# Altium schematic symbol library pporyzala-TI_Lighting.SchLib: 745 symbols (part 3 of 48)
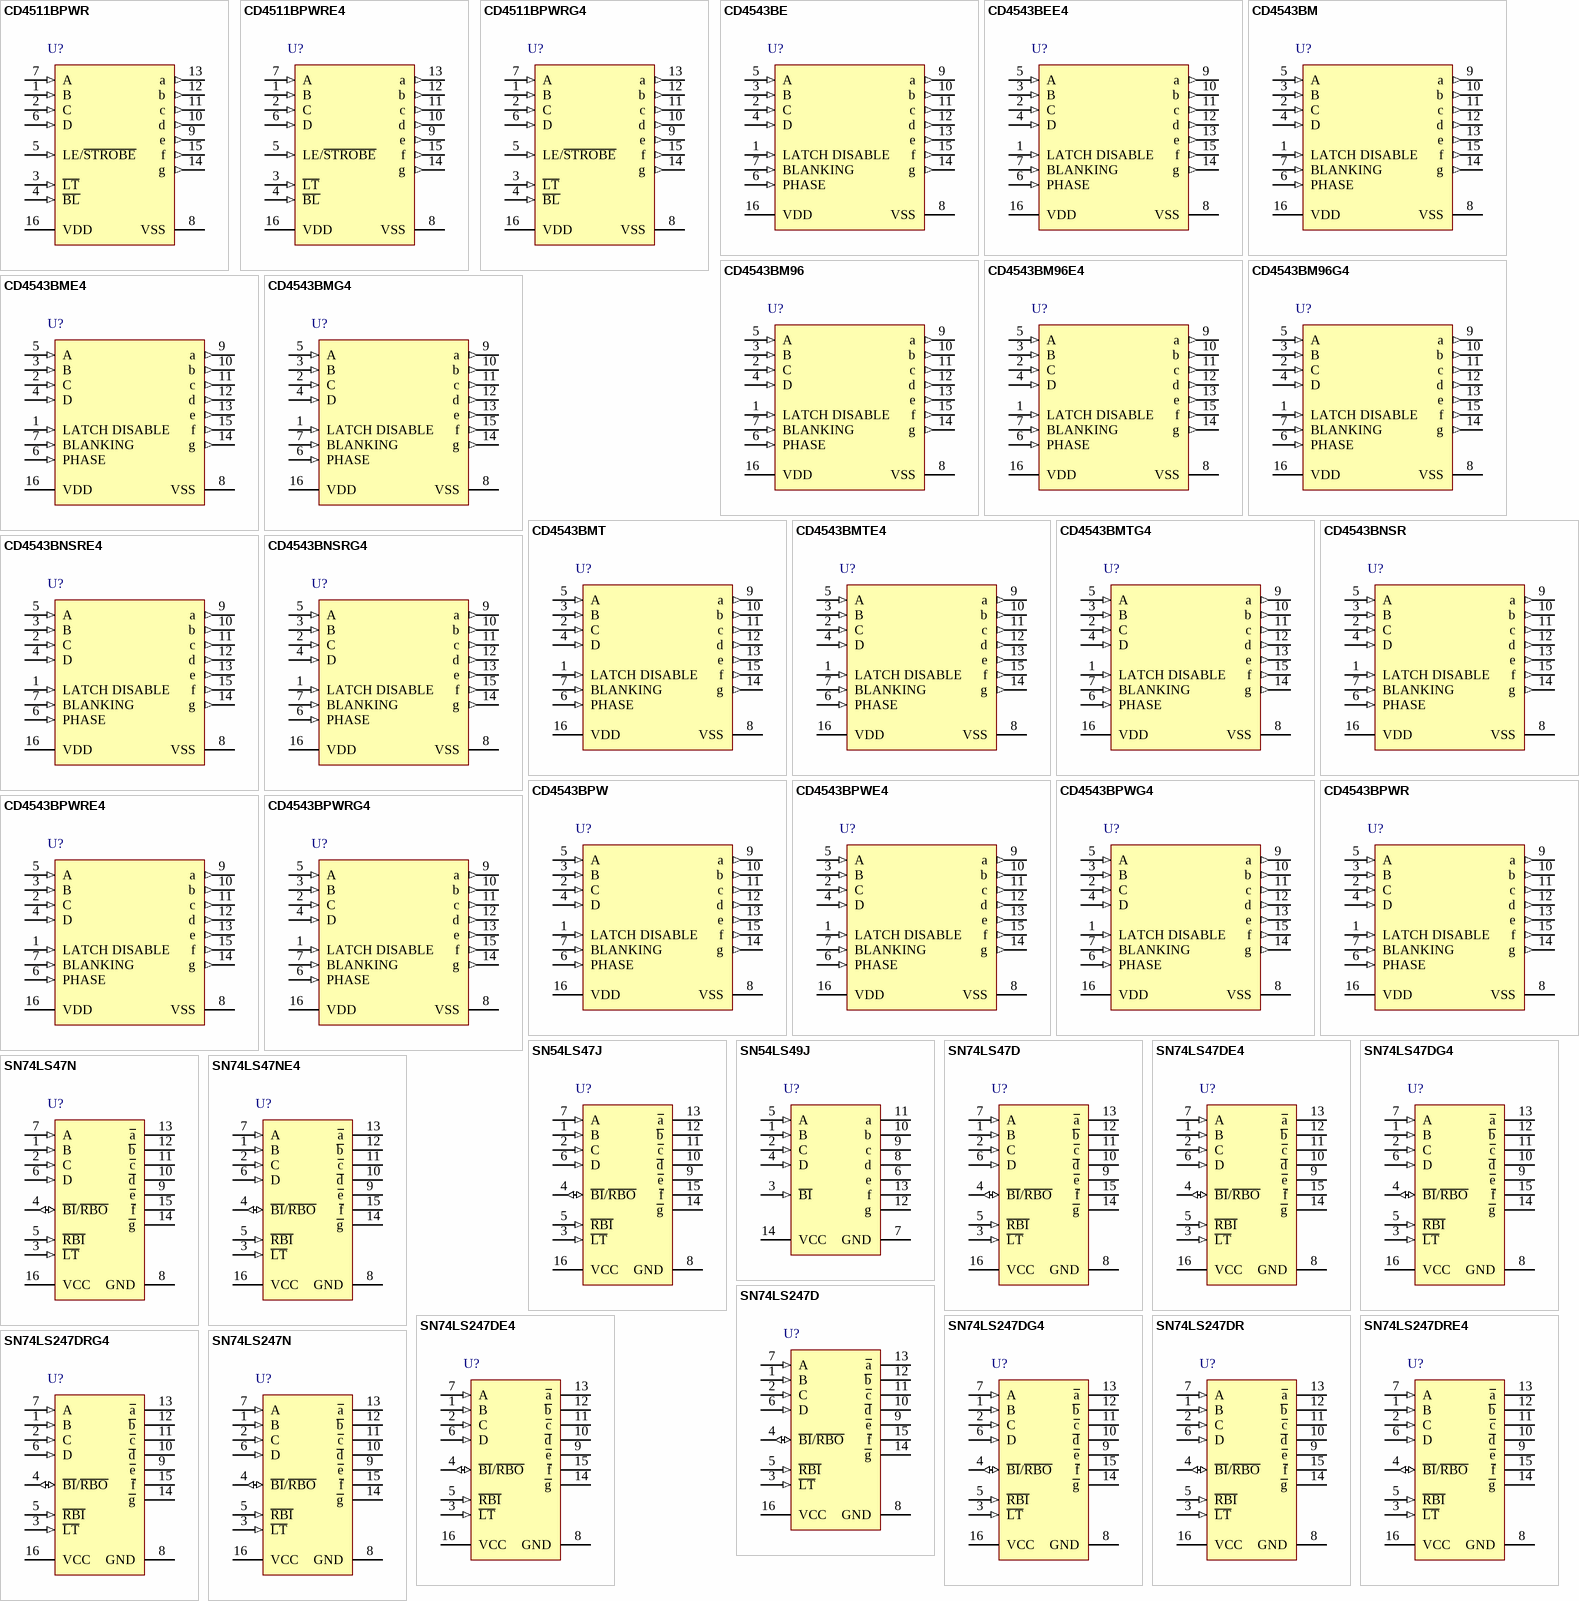
[diagram p33: symbols CD4511BPWR to SN74LS247N]

## CD4511BPWR
designator U?
CMOS BCD-to-7-Segment LED Latch / Decoder / Driver, 3 to 18 V, -55 to 125 degC, 16-pin SOP (PW16), Green (RoHS & no Sb/Br); Manufacturer: Texas Instruments; PartNumber: CD4511BPWR; Rating: Military; SubFamily: Discrete Segment LED Driver; Vin(Max)(V): 18; Vin(Min)(V): 3; DatasheetVersion: SCHS072B; PackageVersion: 4040064-4/G; PackageReference: PW16; PackageDescription: 16-Pin Plastic Small Outline, Body 4.40 x 5.00 mm, Pitch 0.65 mm; Supplier 1: Digi-Key; Supplier Part Number 1: 296-3529-2-ND; Supplier 2: Digi-Key; Supplier Part Number 2: 296-3529-1-ND; Supplier 3: Digi-Key; Supplier Part Number 3: 296-3529-6-ND; Supplier 4: Newark; Supplier Part Number 4: 74C8156; Supplier 5: Mouser; Supplier Part Number 5: 595-CD4511BPWR; Eco-Plan: Green (RoHS & no Sb/Br); Mounting Technology: Surface Mount; Code_JEDEC: MO-153; ComponentLink1Description: Manufacturer URL; ComponentLink1URL: http://www.ti.com/; ComponentLink2Description: Datasheet; ComponentLink2URL: http://www.ti.com/general/docs/lit/getliterature.tsp?genericPartNumber=CD4511B&fileType=pdf; ComponentLink3Description: Package Specification; ComponentLink3URL: http://www.ti.com/lit/ml/mpds361/mpds361.pdf
footprint TI-PW16_N (SOP, 16-Leads, Body 5x4.4mm, Pitch 0.65mm, IPC Medium Density)
footprint TI-PW16_L (SOP, 16-Leads, Body 5x4.4mm, Pitch 0.65mm, IPC High Density)
footprint TI-PW16_M (SOP, 16-Leads, Body 5x4.4mm, Pitch 0.65mm, IPC Low Density)
pins: 1 B (in), 2 C (in), 3 ~{LT} (in), 4 ~{BL} (in), 5 LE/~{STROBE} (in), 6 D (in), 7 A (in), 8 VSS (power), 9 e (out), 10 d (out), 11 c (out), 12 b (out), 13 a (out), 14 g (out), 15 f (out), 16 VDD (power)

## CD4511BPWRE4
designator U?
CMOS BCD-to-7-Segment LED Latch / Decoder / Driver, 3 to 18 V, -55 to 125 degC, 16-pin SOP (PW16), Green (RoHS & no Sb/Br); Manufacturer: Texas Instruments; PartNumber: CD4511BPWRE4; Rating: Military; SubFamily: Discrete Segment LED Driver; Vin(Max)(V): 18; Vin(Min)(V): 3; DatasheetVersion: SCHS072B; PackageVersion: 4040064-4/G; PackageReference: PW16; PackageDescription: 16-Pin Plastic Small Outline, Body 4.40 x 5.00 mm, Pitch 0.65 mm; Supplier 1: Digi-Key; Supplier Part Number 1: CD4511BPWRE4-ND; Supplier 2: Newark; Supplier Part Number 2: 33K4975; Supplier 3: Mouser; Supplier Part Number 3: 595-CD4511BPWRE4; Eco-Plan: Green (RoHS & no Sb/Br); Mounting Technology: Surface Mount; Code_JEDEC: MO-153; ComponentLink1Description: Manufacturer URL; ComponentLink1URL: http://www.ti.com/; ComponentLink2Description: Datasheet; ComponentLink2URL: http://www.ti.com/general/docs/lit/getliterature.tsp?genericPartNumber=CD4511B&fileType=pdf; ComponentLink3Description: Package Specification; ComponentLink3URL: http://www.ti.com/lit/ml/mpds361/mpds361.pdf
footprint TI-PW16_N (SOP, 16-Leads, Body 5x4.4mm, Pitch 0.65mm, IPC Medium Density)
footprint TI-PW16_L (SOP, 16-Leads, Body 5x4.4mm, Pitch 0.65mm, IPC High Density)
footprint TI-PW16_M (SOP, 16-Leads, Body 5x4.4mm, Pitch 0.65mm, IPC Low Density)
pins: 1 B (in), 2 C (in), 3 ~{LT} (in), 4 ~{BL} (in), 5 LE/~{STROBE} (in), 6 D (in), 7 A (in), 8 VSS (power), 9 e (out), 10 d (out), 11 c (out), 12 b (out), 13 a (out), 14 g (out), 15 f (out), 16 VDD (power)

## CD4511BPWRG4
designator U?
CMOS BCD-to-7-Segment LED Latch / Decoder / Driver, 3 to 18 V, -55 to 125 degC, 16-pin SOP (PW16), Green (RoHS & no Sb/Br); Manufacturer: Texas Instruments; PartNumber: CD4511BPWRG4; Rating: Military; SubFamily: Discrete Segment LED Driver; Vin(Max)(V): 18; Vin(Min)(V): 3; DatasheetVersion: SCHS072B; PackageVersion: 4040064-4/G; PackageReference: PW16; PackageDescription: 16-Pin Plastic Small Outline, Body 4.40 x 5.00 mm, Pitch 0.65 mm; Supplier 1: Digi-Key; Supplier Part Number 1: CD4511BPWRG4-ND; Supplier 2: Newark; Supplier Part Number 2: 46M6241; Supplier 3: Mouser; Supplier Part Number 3: 595-CD4511BPWRG4; Eco-Plan: Green (RoHS & no Sb/Br); Mounting Technology: Surface Mount; Code_JEDEC: MO-153; ComponentLink1Description: Manufacturer URL; ComponentLink1URL: http://www.ti.com/; ComponentLink2Description: Datasheet; ComponentLink2URL: http://www.ti.com/general/docs/lit/getliterature.tsp?genericPartNumber=CD4511B&fileType=pdf; ComponentLink3Description: Package Specification; ComponentLink3URL: http://www.ti.com/lit/ml/mpds361/mpds361.pdf
footprint TI-PW16_N (SOP, 16-Leads, Body 5x4.4mm, Pitch 0.65mm, IPC Medium Density)
footprint TI-PW16_L (SOP, 16-Leads, Body 5x4.4mm, Pitch 0.65mm, IPC High Density)
footprint TI-PW16_M (SOP, 16-Leads, Body 5x4.4mm, Pitch 0.65mm, IPC Low Density)
pins: 1 B (in), 2 C (in), 3 ~{LT} (in), 4 ~{BL} (in), 5 LE/~{STROBE} (in), 6 D (in), 7 A (in), 8 VSS (power), 9 e (out), 10 d (out), 11 c (out), 12 b (out), 13 a (out), 14 g (out), 15 f (out), 16 VDD (power)

## CD4543BE
designator U?
CMOS BCD-to-7-Segment Latch / Decoder / Driver for Liquid-Crystal Displays, 3 V, -55 to 125 degC, 16-pin DIP (N16), Pb-Free (RoHS); Manufacturer: Texas Instruments; PartNumber: CD4543BE; Rating: Catalog; SubFamily: Discrete Segment LED Driver; Vin(Min)(V): 3; DatasheetVersion: SCHS086D; PackageVersion: 4040049/E; PackageReference: N16; PackageDescription: 16-Pin Plastic In-Line, Body 19.305 x 6.35 mm, Pitch 2.54 mm; Supplier 1: Digi-Key; Supplier Part Number 1: 296-2079-5-ND; Supplier 2: Farnell; Supplier Part Number 2: 1287418; Supplier 3: Newark; Supplier Part Number 3: 67K0090; Supplier 4: Mouser; Supplier Part Number 4: 595-CD4543BE; Eco-Plan: Pb-Free (RoHS); Mounting Technology: Through Hole; Code_JEDEC: MS-001; ComponentLink1Description: Manufacturer URL; ComponentLink1URL: http://www.ti.com/; ComponentLink2Description: Datasheet; ComponentLink2URL: http://www.ti.com/general/docs/lit/getliterature.tsp?genericPartNumber=CD4543B&fileType=pdf; ComponentLink3Description: Package Specification; ComponentLink3URL: http://www.ti.com/litv/pdf/mpdi002c
footprint TI-N16 (DIP, 16-Leads, Body 19.305x6.35 mm, Pitch 2.54 mm)
pins: 1 LATCH DISABLE (in), 2 C (in), 3 B (in), 4 D (in), 5 A (in), 6 PHASE (in), 7 BLANKING (in), 8 VSS (power), 9 a (out), 10 b (out), 11 c (out), 12 d (out), 13 e (out), 14 g (out), 15 f (out), 16 VDD (power)

## CD4543BEE4
designator U?
CMOS BCD-to-7-Segment Latch / Decoder / Driver for Liquid-Crystal Displays, 3 V, -55 to 125 degC, 16-pin DIP (N16), Pb-Free (RoHS); Manufacturer: Texas Instruments; PartNumber: CD4543BEE4; Rating: Catalog; SubFamily: Discrete Segment LED Driver; Vin(Min)(V): 3; DatasheetVersion: SCHS086D; PackageVersion: 4040049/E; PackageReference: N16; PackageDescription: 16-Pin Plastic In-Line, Body 19.305 x 6.35 mm, Pitch 2.54 mm; Supplier 1: Digi-Key; Supplier Part Number 1: CD4543BEE4-ND; Supplier 2: Newark; Supplier Part Number 2: 63K5043; Supplier 3: Mouser; Supplier Part Number 3: 595-CD4543BEE4; Eco-Plan: Pb-Free (RoHS); Mounting Technology: Through Hole; Code_JEDEC: MS-001; ComponentLink1Description: Manufacturer URL; ComponentLink1URL: http://www.ti.com/; ComponentLink2Description: Datasheet; ComponentLink2URL: http://www.ti.com/general/docs/lit/getliterature.tsp?genericPartNumber=CD4543B&fileType=pdf; ComponentLink3Description: Package Specification; ComponentLink3URL: http://www.ti.com/litv/pdf/mpdi002c
footprint TI-N16 (DIP, 16-Leads, Body 19.305x6.35 mm, Pitch 2.54 mm)
pins: 1 LATCH DISABLE (in), 2 C (in), 3 B (in), 4 D (in), 5 A (in), 6 PHASE (in), 7 BLANKING (in), 8 VSS (power), 9 a (out), 10 b (out), 11 c (out), 12 d (out), 13 e (out), 14 g (out), 15 f (out), 16 VDD (power)

## CD4543BM
designator U?
CMOS BCD-to-7-Segment Latch / Decoder / Driver for Liquid-Crystal Displays, 3 V, -55 to 125 degC, 16-pin SOIC (D16), Green (RoHS & no Sb/Br); Manufacturer: Texas Instruments; PartNumber: CD4543BM; Rating: Catalog; SubFamily: Discrete Segment LED Driver; Vin(Min)(V): 3; DatasheetVersion: SCHS086D; PackageVersion: 4040047-6/M; PackageReference: D16; PackageDescription: 16-Pin Plastic Small Outline, Body 9.90 x 3.90 mm, Pitch 1.27 mm; Supplier 1: Digi-Key; Supplier Part Number 1: 296-32934-5-ND; Supplier 2: Farnell; Supplier Part Number 2: 1753457; Supplier 3: Newark; Supplier Part Number 3: 61H5012; Supplier 4: Mouser; Supplier Part Number 4: 595-CD4543BM; Eco-Plan: Green (RoHS & no Sb/Br); Mounting Technology: Surface Mount; Code_JEDEC: MS-012; ComponentLink1Description: Manufacturer URL; ComponentLink1URL: http://www.ti.com/; ComponentLink2Description: Datasheet; ComponentLink2URL: http://www.ti.com/general/docs/lit/getliterature.tsp?genericPartNumber=CD4543B&fileType=pdf; ComponentLink3Description: Package Specification; ComponentLink3URL: http://www.ti.com/litv/pdf/mpds178g
footprint TI-D16_N (SOIC, 16-Leads, Body 9.9x3.9mm, Pitch 1.27mm, IPC Medium Density)
footprint TI-D16_L (SOIC, 16-Leads, Body 9.9x3.9mm, Pitch 1.27mm, IPC High Density)
footprint TI-D16_M (SOIC, 16-Leads, Body 9.9x3.9mm, Pitch 1.27mm, IPC Low Density)
pins: 1 LATCH DISABLE (in), 2 C (in), 3 B (in), 4 D (in), 5 A (in), 6 PHASE (in), 7 BLANKING (in), 8 VSS (power), 9 a (out), 10 b (out), 11 c (out), 12 d (out), 13 e (out), 14 g (out), 15 f (out), 16 VDD (power)

## CD4543BM96
designator U?
CMOS BCD-to-7-Segment Latch / Decoder / Driver for Liquid-Crystal Displays, 3 V, -55 to 125 degC, 16-pin SOIC (D16), Green (RoHS & no Sb/Br); Manufacturer: Texas Instruments; PartNumber: CD4543BM96; Rating: Catalog; SubFamily: Discrete Segment LED Driver; Vin(Min)(V): 3; DatasheetVersion: SCHS086D; PackageVersion: 4040047-6/M; PackageReference: D16; PackageDescription: 16-Pin Plastic Small Outline, Body 9.90 x 3.90 mm, Pitch 1.27 mm; Supplier 1: Digi-Key; Supplier Part Number 1: 296-31539-2-ND; Supplier 2: Digi-Key; Supplier Part Number 2: 296-31539-1-ND; Supplier 3: Digi-Key; Supplier Part Number 3: 296-31539-6-ND; Supplier 4: Newark; Supplier Part Number 4: 61H5013; Supplier 5: Mouser; Supplier Part Number 5: 595-CD4543BM96; Eco-Plan: Green (RoHS & no Sb/Br); Mounting Technology: Surface Mount; Code_JEDEC: MS-012; ComponentLink1Description: Manufacturer URL; ComponentLink1URL: http://www.ti.com/; ComponentLink2Description: Datasheet; ComponentLink2URL: http://www.ti.com/general/docs/lit/getliterature.tsp?genericPartNumber=CD4543B&fileType=pdf; ComponentLink3Description: Package Specification; ComponentLink3URL: http://www.ti.com/litv/pdf/mpds178g
footprint TI-D16_N (SOIC, 16-Leads, Body 9.9x3.9mm, Pitch 1.27mm, IPC Medium Density)
footprint TI-D16_L (SOIC, 16-Leads, Body 9.9x3.9mm, Pitch 1.27mm, IPC High Density)
footprint TI-D16_M (SOIC, 16-Leads, Body 9.9x3.9mm, Pitch 1.27mm, IPC Low Density)
pins: 1 LATCH DISABLE (in), 2 C (in), 3 B (in), 4 D (in), 5 A (in), 6 PHASE (in), 7 BLANKING (in), 8 VSS (power), 9 a (out), 10 b (out), 11 c (out), 12 d (out), 13 e (out), 14 g (out), 15 f (out), 16 VDD (power)

## CD4543BM96E4
designator U?
CMOS BCD-to-7-Segment Latch / Decoder / Driver for Liquid-Crystal Displays, 3 V, -55 to 125 degC, 16-pin SOIC (D16), Green (RoHS & no Sb/Br); Manufacturer: Texas Instruments; PartNumber: CD4543BM96E4; Rating: Catalog; SubFamily: Discrete Segment LED Driver; Vin(Min)(V): 3; DatasheetVersion: SCHS086D; PackageVersion: 4040047-6/M; PackageReference: D16; PackageDescription: 16-Pin Plastic Small Outline, Body 9.90 x 3.90 mm, Pitch 1.27 mm; Supplier 1: Digi-Key; Supplier Part Number 1: CD4543BM96E4-ND; Supplier 2: Newark; Supplier Part Number 2: 36K8879; Supplier 3: Mouser; Supplier Part Number 3: 595-CD4543BM96E4; Eco-Plan: Green (RoHS & no Sb/Br); Mounting Technology: Surface Mount; Code_JEDEC: MS-012; ComponentLink1Description: Manufacturer URL; ComponentLink1URL: http://www.ti.com/; ComponentLink2Description: Datasheet; ComponentLink2URL: http://www.ti.com/general/docs/lit/getliterature.tsp?genericPartNumber=CD4543B&fileType=pdf; ComponentLink3Description: Package Specification; ComponentLink3URL: http://www.ti.com/litv/pdf/mpds178g
footprint TI-D16_N (SOIC, 16-Leads, Body 9.9x3.9mm, Pitch 1.27mm, IPC Medium Density)
footprint TI-D16_L (SOIC, 16-Leads, Body 9.9x3.9mm, Pitch 1.27mm, IPC High Density)
footprint TI-D16_M (SOIC, 16-Leads, Body 9.9x3.9mm, Pitch 1.27mm, IPC Low Density)
pins: 1 LATCH DISABLE (in), 2 C (in), 3 B (in), 4 D (in), 5 A (in), 6 PHASE (in), 7 BLANKING (in), 8 VSS (power), 9 a (out), 10 b (out), 11 c (out), 12 d (out), 13 e (out), 14 g (out), 15 f (out), 16 VDD (power)

## CD4543BM96G4
designator U?
CMOS BCD-to-7-Segment Latch / Decoder / Driver for Liquid-Crystal Displays, 3 V, -55 to 125 degC, 16-pin SOIC (D16), Green (RoHS & no Sb/Br); Manufacturer: Texas Instruments; PartNumber: CD4543BM96G4; Rating: Catalog; SubFamily: Discrete Segment LED Driver; Vin(Min)(V): 3; DatasheetVersion: SCHS086D; PackageVersion: 4040047-6/M; PackageReference: D16; PackageDescription: 16-Pin Plastic Small Outline, Body 9.90 x 3.90 mm, Pitch 1.27 mm; Supplier 1: Digi-Key; Supplier Part Number 1: CD4543BM96G4-ND; Supplier 2: Newark; Supplier Part Number 2: 41M2562; Supplier 3: Mouser; Supplier Part Number 3: 595-CD4543BM96G4; Eco-Plan: Green (RoHS & no Sb/Br); Mounting Technology: Surface Mount; Code_JEDEC: MS-012; ComponentLink1Description: Manufacturer URL; ComponentLink1URL: http://www.ti.com/; ComponentLink2Description: Datasheet; ComponentLink2URL: http://www.ti.com/general/docs/lit/getliterature.tsp?genericPartNumber=CD4543B&fileType=pdf; ComponentLink3Description: Package Specification; ComponentLink3URL: http://www.ti.com/litv/pdf/mpds178g
footprint TI-D16_N (SOIC, 16-Leads, Body 9.9x3.9mm, Pitch 1.27mm, IPC Medium Density)
footprint TI-D16_L (SOIC, 16-Leads, Body 9.9x3.9mm, Pitch 1.27mm, IPC High Density)
footprint TI-D16_M (SOIC, 16-Leads, Body 9.9x3.9mm, Pitch 1.27mm, IPC Low Density)
pins: 1 LATCH DISABLE (in), 2 C (in), 3 B (in), 4 D (in), 5 A (in), 6 PHASE (in), 7 BLANKING (in), 8 VSS (power), 9 a (out), 10 b (out), 11 c (out), 12 d (out), 13 e (out), 14 g (out), 15 f (out), 16 VDD (power)

## CD4543BME4
designator U?
CMOS BCD-to-7-Segment Latch / Decoder / Driver for Liquid-Crystal Displays, 3 V, -55 to 125 degC, 16-pin SOIC (D16), Green (RoHS & no Sb/Br); Manufacturer: Texas Instruments; PartNumber: CD4543BME4; Rating: Catalog; SubFamily: Discrete Segment LED Driver; Vin(Min)(V): 3; DatasheetVersion: SCHS086D; PackageVersion: 4040047-6/M; PackageReference: D16; PackageDescription: 16-Pin Plastic Small Outline, Body 9.90 x 3.90 mm, Pitch 1.27 mm; Supplier 1: Digi-Key; Supplier Part Number 1: CD4543BME4-ND; Supplier 2: Newark; Supplier Part Number 2: 36K8877; Supplier 3: Mouser; Supplier Part Number 3: 595-CD4543BME4; Eco-Plan: Green (RoHS & no Sb/Br); Mounting Technology: Surface Mount; Code_JEDEC: MS-012; ComponentLink1Description: Manufacturer URL; ComponentLink1URL: http://www.ti.com/; ComponentLink2Description: Datasheet; ComponentLink2URL: http://www.ti.com/general/docs/lit/getliterature.tsp?genericPartNumber=CD4543B&fileType=pdf; ComponentLink3Description: Package Specification; ComponentLink3URL: http://www.ti.com/litv/pdf/mpds178g
footprint TI-D16_N (SOIC, 16-Leads, Body 9.9x3.9mm, Pitch 1.27mm, IPC Medium Density)
footprint TI-D16_L (SOIC, 16-Leads, Body 9.9x3.9mm, Pitch 1.27mm, IPC High Density)
footprint TI-D16_M (SOIC, 16-Leads, Body 9.9x3.9mm, Pitch 1.27mm, IPC Low Density)
pins: 1 LATCH DISABLE (in), 2 C (in), 3 B (in), 4 D (in), 5 A (in), 6 PHASE (in), 7 BLANKING (in), 8 VSS (power), 9 a (out), 10 b (out), 11 c (out), 12 d (out), 13 e (out), 14 g (out), 15 f (out), 16 VDD (power)

## CD4543BMG4
designator U?
CMOS BCD-to-7-Segment Latch / Decoder / Driver for Liquid-Crystal Displays, 3 V, -55 to 125 degC, 16-pin SOIC (D16), Green (RoHS & no Sb/Br); Manufacturer: Texas Instruments; PartNumber: CD4543BMG4; Rating: Catalog; SubFamily: Discrete Segment LED Driver; Vin(Min)(V): 3; DatasheetVersion: SCHS086D; PackageVersion: 4040047-6/M; PackageReference: D16; PackageDescription: 16-Pin Plastic Small Outline, Body 9.90 x 3.90 mm, Pitch 1.27 mm; Supplier 1: Digi-Key; Supplier Part Number 1: CD4543BMG4-ND; Supplier 2: Newark; Supplier Part Number 2: 41M2560; Supplier 3: Mouser; Supplier Part Number 3: 595-CD4543BMG4; Eco-Plan: Green (RoHS & no Sb/Br); Mounting Technology: Surface Mount; Code_JEDEC: MS-012; ComponentLink1Description: Manufacturer URL; ComponentLink1URL: http://www.ti.com/; ComponentLink2Description: Datasheet; ComponentLink2URL: http://www.ti.com/general/docs/lit/getliterature.tsp?genericPartNumber=CD4543B&fileType=pdf; ComponentLink3Description: Package Specification; ComponentLink3URL: http://www.ti.com/litv/pdf/mpds178g
footprint TI-D16_N (SOIC, 16-Leads, Body 9.9x3.9mm, Pitch 1.27mm, IPC Medium Density)
footprint TI-D16_L (SOIC, 16-Leads, Body 9.9x3.9mm, Pitch 1.27mm, IPC High Density)
footprint TI-D16_M (SOIC, 16-Leads, Body 9.9x3.9mm, Pitch 1.27mm, IPC Low Density)
pins: 1 LATCH DISABLE (in), 2 C (in), 3 B (in), 4 D (in), 5 A (in), 6 PHASE (in), 7 BLANKING (in), 8 VSS (power), 9 a (out), 10 b (out), 11 c (out), 12 d (out), 13 e (out), 14 g (out), 15 f (out), 16 VDD (power)

## CD4543BMT
designator U?
CMOS BCD-to-7-Segment Latch / Decoder / Driver for Liquid-Crystal Displays, 3 V, -55 to 125 degC, 16-pin SOIC (D16), Green (RoHS & no Sb/Br); Manufacturer: Texas Instruments; PartNumber: CD4543BMT; Rating: Catalog; SubFamily: Discrete Segment LED Driver; Vin(Min)(V): 3; DatasheetVersion: SCHS086D; PackageVersion: 4040047-6/M; PackageReference: D16; PackageDescription: 16-Pin Plastic Small Outline, Body 9.90 x 3.90 mm, Pitch 1.27 mm; Supplier 1: Digi-Key; Supplier Part Number 1: 296-32051-2-ND; Supplier 2: Digi-Key; Supplier Part Number 2: 296-32051-1-ND; Supplier 3: Digi-Key; Supplier Part Number 3: 296-32051-6-ND; Supplier 4: Farnell; Supplier Part Number 4: 1753196RL; Supplier 5: Farnell; Supplier Part Number 5: 1753196; Supplier 6: Newark; Supplier Part Number 6: 86H9742; Supplier 7: Mouser; Supplier Part Number 7: 595-CD4543BMT; Eco-Plan: Green (RoHS & no Sb/Br); Mounting Technology: Surface Mount; Code_JEDEC: MS-012; ComponentLink1Description: Manufacturer URL; ComponentLink1URL: http://www.ti.com/; ComponentLink2Description: Datasheet; ComponentLink2URL: http://www.ti.com/general/docs/lit/getliterature.tsp?genericPartNumber=CD4543B&fileType=pdf; ComponentLink3Description: Package Specification; ComponentLink3URL: http://www.ti.com/litv/pdf/mpds178g
footprint TI-D16_N (SOIC, 16-Leads, Body 9.9x3.9mm, Pitch 1.27mm, IPC Medium Density)
footprint TI-D16_L (SOIC, 16-Leads, Body 9.9x3.9mm, Pitch 1.27mm, IPC High Density)
footprint TI-D16_M (SOIC, 16-Leads, Body 9.9x3.9mm, Pitch 1.27mm, IPC Low Density)
pins: 1 LATCH DISABLE (in), 2 C (in), 3 B (in), 4 D (in), 5 A (in), 6 PHASE (in), 7 BLANKING (in), 8 VSS (power), 9 a (out), 10 b (out), 11 c (out), 12 d (out), 13 e (out), 14 g (out), 15 f (out), 16 VDD (power)

## CD4543BMTE4
designator U?
CMOS BCD-to-7-Segment Latch / Decoder / Driver for Liquid-Crystal Displays, 3 V, -55 to 125 degC, 16-pin SOIC (D16), Green (RoHS & no Sb/Br); Manufacturer: Texas Instruments; PartNumber: CD4543BMTE4; Rating: Catalog; SubFamily: Discrete Segment LED Driver; Vin(Min)(V): 3; DatasheetVersion: SCHS086D; PackageVersion: 4040047-6/M; PackageReference: D16; PackageDescription: 16-Pin Plastic Small Outline, Body 9.90 x 3.90 mm, Pitch 1.27 mm; Supplier 1: Digi-Key; Supplier Part Number 1: CD4543BMTE4-ND; Supplier 2: Newark; Supplier Part Number 2: 36K8878; Supplier 3: Mouser; Supplier Part Number 3: 595-CD4543BMTE4; Eco-Plan: Green (RoHS & no Sb/Br); Mounting Technology: Surface Mount; Code_JEDEC: MS-012; ComponentLink1Description: Manufacturer URL; ComponentLink1URL: http://www.ti.com/; ComponentLink2Description: Datasheet; ComponentLink2URL: http://www.ti.com/general/docs/lit/getliterature.tsp?genericPartNumber=CD4543B&fileType=pdf; ComponentLink3Description: Package Specification; ComponentLink3URL: http://www.ti.com/litv/pdf/mpds178g
footprint TI-D16_N (SOIC, 16-Leads, Body 9.9x3.9mm, Pitch 1.27mm, IPC Medium Density)
footprint TI-D16_L (SOIC, 16-Leads, Body 9.9x3.9mm, Pitch 1.27mm, IPC High Density)
footprint TI-D16_M (SOIC, 16-Leads, Body 9.9x3.9mm, Pitch 1.27mm, IPC Low Density)
pins: 1 LATCH DISABLE (in), 2 C (in), 3 B (in), 4 D (in), 5 A (in), 6 PHASE (in), 7 BLANKING (in), 8 VSS (power), 9 a (out), 10 b (out), 11 c (out), 12 d (out), 13 e (out), 14 g (out), 15 f (out), 16 VDD (power)

## CD4543BMTG4
designator U?
CMOS BCD-to-7-Segment Latch / Decoder / Driver for Liquid-Crystal Displays, 3 V, -55 to 125 degC, 16-pin SOIC (D16), Green (RoHS & no Sb/Br); Manufacturer: Texas Instruments; PartNumber: CD4543BMTG4; Rating: Catalog; SubFamily: Discrete Segment LED Driver; Vin(Min)(V): 3; DatasheetVersion: SCHS086D; PackageVersion: 4040047-6/M; PackageReference: D16; PackageDescription: 16-Pin Plastic Small Outline, Body 9.90 x 3.90 mm, Pitch 1.27 mm; Supplier 1: Digi-Key; Supplier Part Number 1: CD4543BMTG4-ND; Supplier 2: Newark; Supplier Part Number 2: 41M2561; Supplier 3: Mouser; Supplier Part Number 3: 595-CD4543BMTG4; Eco-Plan: Green (RoHS & no Sb/Br); Mounting Technology: Surface Mount; Code_JEDEC: MS-012; ComponentLink1Description: Manufacturer URL; ComponentLink1URL: http://www.ti.com/; ComponentLink2Description: Datasheet; ComponentLink2URL: http://www.ti.com/general/docs/lit/getliterature.tsp?genericPartNumber=CD4543B&fileType=pdf; ComponentLink3Description: Package Specification; ComponentLink3URL: http://www.ti.com/litv/pdf/mpds178g
footprint TI-D16_N (SOIC, 16-Leads, Body 9.9x3.9mm, Pitch 1.27mm, IPC Medium Density)
footprint TI-D16_L (SOIC, 16-Leads, Body 9.9x3.9mm, Pitch 1.27mm, IPC High Density)
footprint TI-D16_M (SOIC, 16-Leads, Body 9.9x3.9mm, Pitch 1.27mm, IPC Low Density)
pins: 1 LATCH DISABLE (in), 2 C (in), 3 B (in), 4 D (in), 5 A (in), 6 PHASE (in), 7 BLANKING (in), 8 VSS (power), 9 a (out), 10 b (out), 11 c (out), 12 d (out), 13 e (out), 14 g (out), 15 f (out), 16 VDD (power)

## CD4543BNSR
designator U?
CMOS BCD-to-7-Segment Latch / Decoder / Driver for Liquid-Crystal Displays, 3 V, -55 to 125 degC, 16-pin SOP (NS16), Green (RoHS & no Sb/Br); Manufacturer: Texas Instruments; PartNumber: CD4543BNSR; Rating: Catalog; SubFamily: Discrete Segment LED Driver; Vin(Min)(V): 3; DatasheetVersion: SCHS086D; PackageVersion: 4040062/C; PackageReference: NS16; PackageDescription: 16-Pin Plastic Small Outline, Body 10.20 x 5.30 mm, Pitch 1.27 mm; Supplier 1: Digi-Key; Supplier Part Number 1: 296-29272-2-ND; Supplier 2: Digi-Key; Supplier Part Number 2: 296-29272-1-ND; Supplier 3: Digi-Key; Supplier Part Number 3: 296-29272-6-ND; Supplier 4: Newark; Supplier Part Number 4: 74C8180; Supplier 5: Mouser; Supplier Part Number 5: 595-CD4543BNSR; Eco-Plan: Green (RoHS & no Sb/Br); Mounting Technology: Surface Mount; ComponentLink1Description: Manufacturer URL; ComponentLink1URL: http://www.ti.com/; ComponentLink2Description: Datasheet; ComponentLink2URL: http://www.ti.com/general/docs/lit/getliterature.tsp?genericPartNumber=CD4543B&fileType=pdf; ComponentLink3Description: Package Specification; ComponentLink3URL: http://www.ti.com/litv/pdf/msop002a
footprint TI-NS16_N (SOP, 16-Leads, Body 10.2x5.3mm, Pitch 1.27mm, IPC Medium Density)
footprint TI-NS16_L (SOP, 16-Leads, Body 10.2x5.3mm, Pitch 1.27mm, IPC High Density)
footprint TI-NS16_M (SOP, 16-Leads, Body 10.2x5.3mm, Pitch 1.27mm, IPC Low Density)
pins: 1 LATCH DISABLE (in), 2 C (in), 3 B (in), 4 D (in), 5 A (in), 6 PHASE (in), 7 BLANKING (in), 8 VSS (power), 9 a (out), 10 b (out), 11 c (out), 12 d (out), 13 e (out), 14 g (out), 15 f (out), 16 VDD (power)

## CD4543BNSRE4
designator U?
CMOS BCD-to-7-Segment Latch / Decoder / Driver for Liquid-Crystal Displays, 3 V, -55 to 125 degC, 16-pin SOP (NS16), Green (RoHS & no Sb/Br); Manufacturer: Texas Instruments; PartNumber: CD4543BNSRE4; Rating: Catalog; SubFamily: Discrete Segment LED Driver; Vin(Min)(V): 3; DatasheetVersion: SCHS086D; PackageVersion: 4040062/C; PackageReference: NS16; PackageDescription: 16-Pin Plastic Small Outline, Body 10.20 x 5.30 mm, Pitch 1.27 mm; Supplier 1: Digi-Key; Supplier Part Number 1: CD4543BNSRE4-ND; Supplier 2: Newark; Supplier Part Number 2: 36K8880; Supplier 3: Mouser; Supplier Part Number 3: 595-CD4543BNSRE4; Eco-Plan: Green (RoHS & no Sb/Br); Mounting Technology: Surface Mount; ComponentLink1Description: Manufacturer URL; ComponentLink1URL: http://www.ti.com/; ComponentLink2Description: Datasheet; ComponentLink2URL: http://www.ti.com/general/docs/lit/getliterature.tsp?genericPartNumber=CD4543B&fileType=pdf; ComponentLink3Description: Package Specification; ComponentLink3URL: http://www.ti.com/litv/pdf/msop002a
footprint TI-NS16_N (SOP, 16-Leads, Body 10.2x5.3mm, Pitch 1.27mm, IPC Medium Density)
footprint TI-NS16_L (SOP, 16-Leads, Body 10.2x5.3mm, Pitch 1.27mm, IPC High Density)
footprint TI-NS16_M (SOP, 16-Leads, Body 10.2x5.3mm, Pitch 1.27mm, IPC Low Density)
pins: 1 LATCH DISABLE (in), 2 C (in), 3 B (in), 4 D (in), 5 A (in), 6 PHASE (in), 7 BLANKING (in), 8 VSS (power), 9 a (out), 10 b (out), 11 c (out), 12 d (out), 13 e (out), 14 g (out), 15 f (out), 16 VDD (power)

## CD4543BNSRG4
designator U?
CMOS BCD-to-7-Segment Latch / Decoder / Driver for Liquid-Crystal Displays, 3 V, -55 to 125 degC, 16-pin SOP (NS16), Green (RoHS & no Sb/Br); Manufacturer: Texas Instruments; PartNumber: CD4543BNSRG4; Rating: Catalog; SubFamily: Discrete Segment LED Driver; Vin(Min)(V): 3; DatasheetVersion: SCHS086D; PackageVersion: 4040062/C; PackageReference: NS16; PackageDescription: 16-Pin Plastic Small Outline, Body 10.20 x 5.30 mm, Pitch 1.27 mm; Supplier 1: Digi-Key; Supplier Part Number 1: CD4543BNSRG4-ND; Supplier 2: Newark; Supplier Part Number 2: 46M6272; Supplier 3: Mouser; Supplier Part Number 3: 595-CD4543BNSRG4; Eco-Plan: Green (RoHS & no Sb/Br); Mounting Technology: Surface Mount; ComponentLink1Description: Manufacturer URL; ComponentLink1URL: http://www.ti.com/; ComponentLink2Description: Datasheet; ComponentLink2URL: http://www.ti.com/general/docs/lit/getliterature.tsp?genericPartNumber=CD4543B&fileType=pdf; ComponentLink3Description: Package Specification; ComponentLink3URL: http://www.ti.com/litv/pdf/msop002a
footprint TI-NS16_N (SOP, 16-Leads, Body 10.2x5.3mm, Pitch 1.27mm, IPC Medium Density)
footprint TI-NS16_L (SOP, 16-Leads, Body 10.2x5.3mm, Pitch 1.27mm, IPC High Density)
footprint TI-NS16_M (SOP, 16-Leads, Body 10.2x5.3mm, Pitch 1.27mm, IPC Low Density)
pins: 1 LATCH DISABLE (in), 2 C (in), 3 B (in), 4 D (in), 5 A (in), 6 PHASE (in), 7 BLANKING (in), 8 VSS (power), 9 a (out), 10 b (out), 11 c (out), 12 d (out), 13 e (out), 14 g (out), 15 f (out), 16 VDD (power)

## CD4543BPW
designator U?
CMOS BCD-to-7-Segment Latch / Decoder / Driver for Liquid-Crystal Displays, 3 V, -55 to 125 degC, 16-pin SOP (PW16), Green (RoHS & no Sb/Br); Manufacturer: Texas Instruments; PartNumber: CD4543BPW; Rating: Catalog; SubFamily: Discrete Segment LED Driver; Vin(Min)(V): 3; DatasheetVersion: SCHS086D; PackageVersion: 4040064-4/G; PackageReference: PW16; PackageDescription: 16-Pin Plastic Small Outline, Body 4.40 x 5.00 mm, Pitch 0.65 mm; Supplier 1: Digi-Key; Supplier Part Number 1: CD4543BPW-ND; Supplier 2: Farnell; Supplier Part Number 2: 1753458; Supplier 3: Newark; Supplier Part Number 3: 50R5133; Supplier 4: Newark; Supplier Part Number 4: 02H5165; Supplier 5: Mouser; Supplier Part Number 5: 595-CD4543BPW; Eco-Plan: Green (RoHS & no Sb/Br); Mounting Technology: Surface Mount; Code_JEDEC: MO-153; ComponentLink1Description: Manufacturer URL; ComponentLink1URL: http://www.ti.com/; ComponentLink2Description: Datasheet; ComponentLink2URL: http://www.ti.com/general/docs/lit/getliterature.tsp?genericPartNumber=CD4543B&fileType=pdf; ComponentLink3Description: Package Specification; ComponentLink3URL: http://www.ti.com/lit/ml/mpds361/mpds361.pdf
footprint TI-PW16_N (SOP, 16-Leads, Body 5x4.4mm, Pitch 0.65mm, IPC Medium Density)
footprint TI-PW16_L (SOP, 16-Leads, Body 5x4.4mm, Pitch 0.65mm, IPC High Density)
footprint TI-PW16_M (SOP, 16-Leads, Body 5x4.4mm, Pitch 0.65mm, IPC Low Density)
pins: 1 LATCH DISABLE (in), 2 C (in), 3 B (in), 4 D (in), 5 A (in), 6 PHASE (in), 7 BLANKING (in), 8 VSS (power), 9 a (out), 10 b (out), 11 c (out), 12 d (out), 13 e (out), 14 g (out), 15 f (out), 16 VDD (power)

## CD4543BPWE4
designator U?
CMOS BCD-to-7-Segment Latch / Decoder / Driver for Liquid-Crystal Displays, 3 V, -55 to 125 degC, 16-pin SOP (PW16), Green (RoHS & no Sb/Br); Manufacturer: Texas Instruments; PartNumber: CD4543BPWE4; Rating: Catalog; SubFamily: Discrete Segment LED Driver; Vin(Min)(V): 3; DatasheetVersion: SCHS086D; PackageVersion: 4040064-4/G; PackageReference: PW16; PackageDescription: 16-Pin Plastic Small Outline, Body 4.40 x 5.00 mm, Pitch 0.65 mm; Supplier 1: Digi-Key; Supplier Part Number 1: CD4543BPWE4-ND; Supplier 2: Newark; Supplier Part Number 2: 33K4993; Supplier 3: Mouser; Supplier Part Number 3: 595-CD4543BPWE4; Eco-Plan: Green (RoHS & no Sb/Br); Mounting Technology: Surface Mount; Code_JEDEC: MO-153; ComponentLink1Description: Manufacturer URL; ComponentLink1URL: http://www.ti.com/; ComponentLink2Description: Datasheet; ComponentLink2URL: http://www.ti.com/general/docs/lit/getliterature.tsp?genericPartNumber=CD4543B&fileType=pdf; ComponentLink3Description: Package Specification; ComponentLink3URL: http://www.ti.com/lit/ml/mpds361/mpds361.pdf
footprint TI-PW16_N (SOP, 16-Leads, Body 5x4.4mm, Pitch 0.65mm, IPC Medium Density)
footprint TI-PW16_L (SOP, 16-Leads, Body 5x4.4mm, Pitch 0.65mm, IPC High Density)
footprint TI-PW16_M (SOP, 16-Leads, Body 5x4.4mm, Pitch 0.65mm, IPC Low Density)
pins: 1 LATCH DISABLE (in), 2 C (in), 3 B (in), 4 D (in), 5 A (in), 6 PHASE (in), 7 BLANKING (in), 8 VSS (power), 9 a (out), 10 b (out), 11 c (out), 12 d (out), 13 e (out), 14 g (out), 15 f (out), 16 VDD (power)

## CD4543BPWG4
designator U?
CMOS BCD-to-7-Segment Latch / Decoder / Driver for Liquid-Crystal Displays, 3 V, -55 to 125 degC, 16-pin SOP (PW16), Green (RoHS & no Sb/Br); Manufacturer: Texas Instruments; PartNumber: CD4543BPWG4; Rating: Catalog; SubFamily: Discrete Segment LED Driver; Vin(Min)(V): 3; DatasheetVersion: SCHS086D; PackageVersion: 4040064-4/G; PackageReference: PW16; PackageDescription: 16-Pin Plastic Small Outline, Body 4.40 x 5.00 mm, Pitch 0.65 mm; Supplier 1: Digi-Key; Supplier Part Number 1: CD4543BPWG4-ND; Supplier 2: Newark; Supplier Part Number 2: 46M6273; Supplier 3: Mouser; Supplier Part Number 3: 595-CD4543BPWG4; Eco-Plan: Green (RoHS & no Sb/Br); Mounting Technology: Surface Mount; Code_JEDEC: MO-153; ComponentLink1Description: Manufacturer URL; ComponentLink1URL: http://www.ti.com/; ComponentLink2Description: Datasheet; ComponentLink2URL: http://www.ti.com/general/docs/lit/getliterature.tsp?genericPartNumber=CD4543B&fileType=pdf; ComponentLink3Description: Package Specification; ComponentLink3URL: http://www.ti.com/lit/ml/mpds361/mpds361.pdf
footprint TI-PW16_N (SOP, 16-Leads, Body 5x4.4mm, Pitch 0.65mm, IPC Medium Density)
footprint TI-PW16_L (SOP, 16-Leads, Body 5x4.4mm, Pitch 0.65mm, IPC High Density)
footprint TI-PW16_M (SOP, 16-Leads, Body 5x4.4mm, Pitch 0.65mm, IPC Low Density)
pins: 1 LATCH DISABLE (in), 2 C (in), 3 B (in), 4 D (in), 5 A (in), 6 PHASE (in), 7 BLANKING (in), 8 VSS (power), 9 a (out), 10 b (out), 11 c (out), 12 d (out), 13 e (out), 14 g (out), 15 f (out), 16 VDD (power)

## CD4543BPWR
designator U?
CMOS BCD-to-7-Segment Latch / Decoder / Driver for Liquid-Crystal Displays, 3 V, -55 to 125 degC, 16-pin SOP (PW16), Green (RoHS & no Sb/Br); Manufacturer: Texas Instruments; PartNumber: CD4543BPWR; Rating: Catalog; SubFamily: Discrete Segment LED Driver; Vin(Min)(V): 3; DatasheetVersion: SCHS086D; PackageVersion: 4040064-4/G; PackageReference: PW16; PackageDescription: 16-Pin Plastic Small Outline, Body 4.40 x 5.00 mm, Pitch 0.65 mm; Supplier 1: Digi-Key; Supplier Part Number 1: 296-17106-2-ND; Supplier 2: Digi-Key; Supplier Part Number 2: 296-17106-1-ND; Supplier 3: Digi-Key; Supplier Part Number 3: 296-17106-6-ND; Supplier 4: Newark; Supplier Part Number 4: 74C8181; Supplier 5: Mouser; Supplier Part Number 5: 595-CD4543BPWR; Eco-Plan: Green (RoHS & no Sb/Br); Mounting Technology: Surface Mount; Code_JEDEC: MO-153; ComponentLink1Description: Manufacturer URL; ComponentLink1URL: http://www.ti.com/; ComponentLink2Description: Datasheet; ComponentLink2URL: http://www.ti.com/general/docs/lit/getliterature.tsp?genericPartNumber=CD4543B&fileType=pdf; ComponentLink3Description: Package Specification; ComponentLink3URL: http://www.ti.com/lit/ml/mpds361/mpds361.pdf
footprint TI-PW16_N (SOP, 16-Leads, Body 5x4.4mm, Pitch 0.65mm, IPC Medium Density)
footprint TI-PW16_L (SOP, 16-Leads, Body 5x4.4mm, Pitch 0.65mm, IPC High Density)
footprint TI-PW16_M (SOP, 16-Leads, Body 5x4.4mm, Pitch 0.65mm, IPC Low Density)
pins: 1 LATCH DISABLE (in), 2 C (in), 3 B (in), 4 D (in), 5 A (in), 6 PHASE (in), 7 BLANKING (in), 8 VSS (power), 9 a (out), 10 b (out), 11 c (out), 12 d (out), 13 e (out), 14 g (out), 15 f (out), 16 VDD (power)

## CD4543BPWRE4
designator U?
CMOS BCD-to-7-Segment Latch / Decoder / Driver for Liquid-Crystal Displays, 3 V, -55 to 125 degC, 16-pin SOP (PW16), Green (RoHS & no Sb/Br); Manufacturer: Texas Instruments; PartNumber: CD4543BPWRE4; Rating: Catalog; SubFamily: Discrete Segment LED Driver; Vin(Min)(V): 3; DatasheetVersion: SCHS086D; PackageVersion: 4040064-4/G; PackageReference: PW16; PackageDescription: 16-Pin Plastic Small Outline, Body 4.40 x 5.00 mm, Pitch 0.65 mm; Supplier 1: Digi-Key; Supplier Part Number 1: CD4543BPWRE4-ND; Supplier 2: Newark; Supplier Part Number 2: 33K4994; Supplier 3: Mouser; Supplier Part Number 3: 595-CD4543BPWRE4; Eco-Plan: Green (RoHS & no Sb/Br); Mounting Technology: Surface Mount; Code_JEDEC: MO-153; ComponentLink1Description: Manufacturer URL; ComponentLink1URL: http://www.ti.com/; ComponentLink2Description: Datasheet; ComponentLink2URL: http://www.ti.com/general/docs/lit/getliterature.tsp?genericPartNumber=CD4543B&fileType=pdf; ComponentLink3Description: Package Specification; ComponentLink3URL: http://www.ti.com/lit/ml/mpds361/mpds361.pdf
footprint TI-PW16_N (SOP, 16-Leads, Body 5x4.4mm, Pitch 0.65mm, IPC Medium Density)
footprint TI-PW16_L (SOP, 16-Leads, Body 5x4.4mm, Pitch 0.65mm, IPC High Density)
footprint TI-PW16_M (SOP, 16-Leads, Body 5x4.4mm, Pitch 0.65mm, IPC Low Density)
pins: 1 LATCH DISABLE (in), 2 C (in), 3 B (in), 4 D (in), 5 A (in), 6 PHASE (in), 7 BLANKING (in), 8 VSS (power), 9 a (out), 10 b (out), 11 c (out), 12 d (out), 13 e (out), 14 g (out), 15 f (out), 16 VDD (power)

## CD4543BPWRG4
designator U?
CMOS BCD-to-7-Segment Latch / Decoder / Driver for Liquid-Crystal Displays, 3 V, -55 to 125 degC, 16-pin SOP (PW16), Green (RoHS & no Sb/Br); Manufacturer: Texas Instruments; PartNumber: CD4543BPWRG4; Rating: Catalog; SubFamily: Discrete Segment LED Driver; Vin(Min)(V): 3; DatasheetVersion: SCHS086D; PackageVersion: 4040064-4/G; PackageReference: PW16; PackageDescription: 16-Pin Plastic Small Outline, Body 4.40 x 5.00 mm, Pitch 0.65 mm; Supplier 1: Digi-Key; Supplier Part Number 1: CD4543BPWRG4-ND; Supplier 2: Newark; Supplier Part Number 2: 46M6274; Supplier 3: Mouser; Supplier Part Number 3: 595-CD4543BPWRG4; Eco-Plan: Green (RoHS & no Sb/Br); Mounting Technology: Surface Mount; Code_JEDEC: MO-153; ComponentLink1Description: Manufacturer URL; ComponentLink1URL: http://www.ti.com/; ComponentLink2Description: Datasheet; ComponentLink2URL: http://www.ti.com/general/docs/lit/getliterature.tsp?genericPartNumber=CD4543B&fileType=pdf; ComponentLink3Description: Package Specification; ComponentLink3URL: http://www.ti.com/lit/ml/mpds361/mpds361.pdf
footprint TI-PW16_N (SOP, 16-Leads, Body 5x4.4mm, Pitch 0.65mm, IPC Medium Density)
footprint TI-PW16_L (SOP, 16-Leads, Body 5x4.4mm, Pitch 0.65mm, IPC High Density)
footprint TI-PW16_M (SOP, 16-Leads, Body 5x4.4mm, Pitch 0.65mm, IPC Low Density)
pins: 1 LATCH DISABLE (in), 2 C (in), 3 B (in), 4 D (in), 5 A (in), 6 PHASE (in), 7 BLANKING (in), 8 VSS (power), 9 a (out), 10 b (out), 11 c (out), 12 d (out), 13 e (out), 14 g (out), 15 f (out), 16 VDD (power)

## SN54LS47J
designator U?
BCD-to-7-Segment Decoder / Driver, 4.5 to 5.5 V, -55 to 125 degC, 16-pin DIP (J16); Manufacturer: Texas Instruments; PartNumber: SN54LS47J; Rating: Military; SubFamily: Discrete Segment LED Driver; Vin(Max)(V): 5.5; Vin(Min)(V): 4.5; DatasheetVersion: SDLS111; PackageVersion: 4040083/F; PackageReference: J16; PackageDescription: 16-pin, Ceramic, Glass In-Line, Row Spacing 7.62 mm, Pitch 2.54 mm; Mounting Technology: Through Hole; ComponentLink1Description: Manufacturer URL; ComponentLink1URL: http://www.ti.com/; ComponentLink2Description: Datasheet; ComponentLink2URL: http://www.ti.com/general/docs/lit/getliterature.tsp?genericPartNumber=SN54LS47&fileType=pdf; ComponentLink3Description: Package Specification; ComponentLink3URL: http://www.ti.com/lit/ds/symlink/uc1543.pdf
footprint TI-J16 (DIP, 16-Leads, Body 21.34x6.92 mm, Pitch 2.54 mm)
pins: 1 B (in), 2 C (in), 3 ~{LT} (in), 4 ~{BI}/~{RBO} (io), 5 ~{RBI} (in), 6 D (in), 7 A (in), 8 GND (power), 9 ~{e} (oc), 10 ~{d} (oc), 11 ~{c} (oc), 12 ~{b} (oc), 13 ~{a} (oc), 14 ~{g} (oc), 15 ~{f} (oc), 16 VCC (power)

## SN54LS49J
designator U?
BCD-to-7-Segment Decoder / Driver with Open Collector Output, 4.5 to 5.5 V, -55 to 125 degC, 14-pin DIP (J14); Manufacturer: Texas Instruments; PartNumber: SN54LS49J; SubFamily: Discrete Segment LED Driver; Vin(Max)(V): 5.5; Vin(Min)(V): 4.5; DatasheetVersion: SDLS111; PackageVersion: 4040083/F; PackageReference: J14; PackageDescription: 14-Pin Ceramic, Glass In-Line, Row Spacing 7.62 mm, Pitch 2.54 mm; Mounting Technology: Through Hole; ComponentLink1Description: Manufacturer URL; ComponentLink1URL: http://www.ti.com/; ComponentLink2Description: Datasheet; ComponentLink2URL: http://www.ti.com/general/docs/lit/getliterature.tsp?genericPartNumber=SN54LS49&fileType=pdf; ComponentLink3Description: Package Specification; ComponentLink3URL: http://www.ti.com/litv/pdf/mcer002d
footprint TI-J14 (DIP, 14-Leads, Body 19.94x6.92mm, Row Spacing 7.62 mm, Pitch 2.54mm)
pins: 1 B (in), 2 C (in), 3 ~{BI} (in), 4 D (in), 5 A (in), 6 e (oc), 7 GND (power), 8 d (oc), 9 c (oc), 10 b (oc), 11 a (oc), 12 g (oc), 13 f (oc), 14 VCC (power)

## SN74LS47D
designator U?
BCD-to-7-Segment Decoder / Driver, 4.75 to 5.25 V, 0 to 70 degC, 16-pin SOIC (D16), Green (RoHS & no Sb/Br); Manufacturer: Texas Instruments; PartNumber: SN74LS47D; Rating: Catalog; SubFamily: Discrete Segment LED Driver; Vin(Max)(V): 5.25; Vin(Min)(V): 4.75; DatasheetVersion: SDLS111; PackageVersion: 4040047-6/M; PackageReference: D16; PackageDescription: 16-Pin Plastic Small Outline, Body 9.90 x 3.90 mm, Pitch 1.27 mm; Supplier 1: Digi-Key; Supplier Part Number 1: 296-3711-5-ND; Supplier 2: Farnell; Supplier Part Number 2: 1739828; Supplier 3: Newark; Supplier Part Number 3: 50R6572; Supplier 4: Newark; Supplier Part Number 4: 76C3838; Supplier 5: Mouser; Supplier Part Number 5: 595-SN74LS47D; Eco-Plan: Green (RoHS & no Sb/Br); Mounting Technology: Surface Mount; Code_JEDEC: MS-012; ComponentLink1Description: Manufacturer URL; ComponentLink1URL: http://www.ti.com/; ComponentLink2Description: Datasheet; ComponentLink2URL: http://www.ti.com/general/docs/lit/getliterature.tsp?genericPartNumber=SN74LS47&fileType=pdf; ComponentLink3Description: Package Specification; ComponentLink3URL: http://www.ti.com/litv/pdf/mpds178g
footprint TI-D16_N (SOIC, 16-Leads, Body 9.9x3.9mm, Pitch 1.27mm, IPC Medium Density)
footprint TI-D16_L (SOIC, 16-Leads, Body 9.9x3.9mm, Pitch 1.27mm, IPC High Density)
footprint TI-D16_M (SOIC, 16-Leads, Body 9.9x3.9mm, Pitch 1.27mm, IPC Low Density)
pins: 1 B (in), 2 C (in), 3 ~{LT} (in), 4 ~{BI}/~{RBO} (io), 5 ~{RBI} (in), 6 D (in), 7 A (in), 8 GND (power), 9 ~{e} (oc), 10 ~{d} (oc), 11 ~{c} (oc), 12 ~{b} (oc), 13 ~{a} (oc), 14 ~{g} (oc), 15 ~{f} (oc), 16 VCC (power)

## SN74LS47DE4
designator U?
BCD-to-7-Segment Decoder / Driver, 4.75 to 5.25 V, 0 to 70 degC, 16-pin SOIC (D16), Green (RoHS & no Sb/Br); Manufacturer: Texas Instruments; PartNumber: SN74LS47DE4; Rating: Catalog; SubFamily: Discrete Segment LED Driver; Vin(Max)(V): 5.25; Vin(Min)(V): 4.75; DatasheetVersion: SDLS111; PackageVersion: 4040047-6/M; PackageReference: D16; PackageDescription: 16-Pin Plastic Small Outline, Body 9.90 x 3.90 mm, Pitch 1.27 mm; Supplier 1: Digi-Key; Supplier Part Number 1: SN74LS47DE4-ND; Supplier 2: Newark; Supplier Part Number 2: 37K3188; Supplier 3: Mouser; Supplier Part Number 3: 595-SN74LS47DE4; Eco-Plan: Green (RoHS & no Sb/Br); Mounting Technology: Surface Mount; Code_JEDEC: MS-012; ComponentLink1Description: Manufacturer URL; ComponentLink1URL: http://www.ti.com/; ComponentLink2Description: Datasheet; ComponentLink2URL: http://www.ti.com/general/docs/lit/getliterature.tsp?genericPartNumber=SN74LS47&fileType=pdf; ComponentLink3Description: Package Specification; ComponentLink3URL: http://www.ti.com/litv/pdf/mpds178g
footprint TI-D16_N (SOIC, 16-Leads, Body 9.9x3.9mm, Pitch 1.27mm, IPC Medium Density)
footprint TI-D16_L (SOIC, 16-Leads, Body 9.9x3.9mm, Pitch 1.27mm, IPC High Density)
footprint TI-D16_M (SOIC, 16-Leads, Body 9.9x3.9mm, Pitch 1.27mm, IPC Low Density)
pins: 1 B (in), 2 C (in), 3 ~{LT} (in), 4 ~{BI}/~{RBO} (io), 5 ~{RBI} (in), 6 D (in), 7 A (in), 8 GND (power), 9 ~{e} (oc), 10 ~{d} (oc), 11 ~{c} (oc), 12 ~{b} (oc), 13 ~{a} (oc), 14 ~{g} (oc), 15 ~{f} (oc), 16 VCC (power)

## SN74LS47DG4
designator U?
BCD-to-7-Segment Decoder / Driver, 4.75 to 5.25 V, 0 to 70 degC, 16-pin SOIC (D16), Green (RoHS & no Sb/Br); Manufacturer: Texas Instruments; PartNumber: SN74LS47DG4; Rating: Catalog; SubFamily: Discrete Segment LED Driver; Vin(Max)(V): 5.25; Vin(Min)(V): 4.75; DatasheetVersion: SDLS111; PackageVersion: 4040047-6/M; PackageReference: D16; PackageDescription: 16-Pin Plastic Small Outline, Body 9.90 x 3.90 mm, Pitch 1.27 mm; Supplier 1: Digi-Key; Supplier Part Number 1: SN74LS47DG4-ND; Supplier 2: Newark; Supplier Part Number 2: 41M5025; Supplier 3: Mouser; Supplier Part Number 3: 595-SN74LS47DG4; Eco-Plan: Green (RoHS & no Sb/Br); Mounting Technology: Surface Mount; Code_JEDEC: MS-012; ComponentLink1Description: Manufacturer URL; ComponentLink1URL: http://www.ti.com/; ComponentLink2Description: Datasheet; ComponentLink2URL: http://www.ti.com/general/docs/lit/getliterature.tsp?genericPartNumber=SN74LS47&fileType=pdf; ComponentLink3Description: Package Specification; ComponentLink3URL: http://www.ti.com/litv/pdf/mpds178g
footprint TI-D16_N (SOIC, 16-Leads, Body 9.9x3.9mm, Pitch 1.27mm, IPC Medium Density)
footprint TI-D16_L (SOIC, 16-Leads, Body 9.9x3.9mm, Pitch 1.27mm, IPC High Density)
footprint TI-D16_M (SOIC, 16-Leads, Body 9.9x3.9mm, Pitch 1.27mm, IPC Low Density)
pins: 1 B (in), 2 C (in), 3 ~{LT} (in), 4 ~{BI}/~{RBO} (io), 5 ~{RBI} (in), 6 D (in), 7 A (in), 8 GND (power), 9 ~{e} (oc), 10 ~{d} (oc), 11 ~{c} (oc), 12 ~{b} (oc), 13 ~{a} (oc), 14 ~{g} (oc), 15 ~{f} (oc), 16 VCC (power)

## SN74LS47N
designator U?
BCD-to-7-Segment Decoder / Driver, 4.75 to 5.25 V, 0 to 70 degC, 16-pin DIP (N16), Pb-Free (RoHS); Manufacturer: Texas Instruments; PartNumber: SN74LS47N; Rating: Catalog; SubFamily: Discrete Segment LED Driver; Vin(Max)(V): 5.25; Vin(Min)(V): 4.75; DatasheetVersion: SDLS111; PackageVersion: 4040049/E; PackageReference: N16; PackageDescription: 16-Pin Plastic In-Line, Body 19.305 x 6.35 mm, Pitch 2.54 mm; Supplier 1: Digi-Key; Supplier Part Number 1: 296-3712-5-ND; Supplier 2: Farnell; Supplier Part Number 2: 1739829; Supplier 3: Newark; Supplier Part Number 3: 60K6887; Supplier 4: Mouser; Supplier Part Number 4: 595-SN74LS47N; Eco-Plan: Pb-Free (RoHS); Mounting Technology: Through Hole; Code_JEDEC: MS-001; ComponentLink1Description: Manufacturer URL; ComponentLink1URL: http://www.ti.com/; ComponentLink2Description: Datasheet; ComponentLink2URL: http://www.ti.com/general/docs/lit/getliterature.tsp?genericPartNumber=SN74LS47&fileType=pdf; ComponentLink3Description: Package Specification; ComponentLink3URL: http://www.ti.com/litv/pdf/mpdi002c
footprint TI-N16 (DIP, 16-Leads, Body 19.305x6.35 mm, Pitch 2.54 mm)
pins: 1 B (in), 2 C (in), 3 ~{LT} (in), 4 ~{BI}/~{RBO} (io), 5 ~{RBI} (in), 6 D (in), 7 A (in), 8 GND (power), 9 ~{e} (oc), 10 ~{d} (oc), 11 ~{c} (oc), 12 ~{b} (oc), 13 ~{a} (oc), 14 ~{g} (oc), 15 ~{f} (oc), 16 VCC (power)

## SN74LS47NE4
designator U?
BCD-to-7-Segment Decoder / Driver, 4.75 to 5.25 V, 0 to 70 degC, 16-pin DIP (N16), Pb-Free (RoHS); Manufacturer: Texas Instruments; PartNumber: SN74LS47NE4; Rating: Catalog; SubFamily: Discrete Segment LED Driver; Vin(Max)(V): 5.25; Vin(Min)(V): 4.75; DatasheetVersion: SDLS111; PackageVersion: 4040049/E; PackageReference: N16; PackageDescription: 16-Pin Plastic In-Line, Body 19.305 x 6.35 mm, Pitch 2.54 mm; Supplier 1: Digi-Key; Supplier Part Number 1: SN74LS47NE4-ND; Supplier 2: Newark; Supplier Part Number 2: 63K6355; Supplier 3: Mouser; Supplier Part Number 3: 595-SN74LS47NE4; Eco-Plan: Pb-Free (RoHS); Mounting Technology: Through Hole; Code_JEDEC: MS-001; ComponentLink1Description: Manufacturer URL; ComponentLink1URL: http://www.ti.com/; ComponentLink2Description: Datasheet; ComponentLink2URL: http://www.ti.com/general/docs/lit/getliterature.tsp?genericPartNumber=SN74LS47&fileType=pdf; ComponentLink3Description: Package Specification; ComponentLink3URL: http://www.ti.com/litv/pdf/mpdi002c
footprint TI-N16 (DIP, 16-Leads, Body 19.305x6.35 mm, Pitch 2.54 mm)
pins: 1 B (in), 2 C (in), 3 ~{LT} (in), 4 ~{BI}/~{RBO} (io), 5 ~{RBI} (in), 6 D (in), 7 A (in), 8 GND (power), 9 ~{e} (oc), 10 ~{d} (oc), 11 ~{c} (oc), 12 ~{b} (oc), 13 ~{a} (oc), 14 ~{g} (oc), 15 ~{f} (oc), 16 VCC (power)

## SN74LS247D
designator U?
BCD-to-7-Segment Decoder / Driver, 4.75 to 5.25 V, 0 to 70 degC, 16-pin SOIC (D16), Green (RoHS & no Sb/Br); Manufacturer: Texas Instruments; PartNumber: SN74LS247D; Rating: Catalog; SubFamily: Discrete Segment LED Driver; Vin(Max)(V): 5.25; Vin(Min)(V): 4.75; DatasheetVersion: SDLS083; PackageVersion: 4040047-6/M; PackageReference: D16; PackageDescription: 16-Pin Plastic Small Outline, Body 9.90 x 3.90 mm, Pitch 1.27 mm; Supplier 1: Digi-Key; Supplier Part Number 1: 296-3678-5-ND; Supplier 2: Farnell; Supplier Part Number 2: 1739826; Supplier 3: Newark; Supplier Part Number 3: 50R6540; Supplier 4: Newark; Supplier Part Number 4: 76C3753; Supplier 5: Mouser; Supplier Part Number 5: 595-SN74LS247D; Eco-Plan: Green (RoHS & no Sb/Br); Mounting Technology: Surface Mount; Code_JEDEC: MS-012; ComponentLink1Description: Manufacturer URL; ComponentLink1URL: http://www.ti.com/; ComponentLink2Description: Datasheet; ComponentLink2URL: http://www.ti.com/general/docs/lit/getliterature.tsp?genericPartNumber=SN74LS247&fileType=pdf; ComponentLink3Description: Package Specification; ComponentLink3URL: http://www.ti.com/litv/pdf/mpds178g
footprint TI-D16_N (SOIC, 16-Leads, Body 9.9x3.9mm, Pitch 1.27mm, IPC Medium Density)
footprint TI-D16_L (SOIC, 16-Leads, Body 9.9x3.9mm, Pitch 1.27mm, IPC High Density)
footprint TI-D16_M (SOIC, 16-Leads, Body 9.9x3.9mm, Pitch 1.27mm, IPC Low Density)
pins: 1 B (in), 2 C (in), 3 ~{LT} (in), 4 ~{BI}/~{RBO} (io), 5 ~{RBI} (in), 6 D (in), 7 A (in), 8 GND (power), 9 ~{e} (oc), 10 ~{d} (oc), 11 ~{c} (oc), 12 ~{b} (oc), 13 ~{a} (oc), 14 ~{g} (oc), 15 ~{f} (oc), 16 VCC (power)

## SN74LS247DE4
designator U?
BCD-to-7-Segment Decoder / Driver, 4.75 to 5.25 V, 0 to 70 degC, 16-pin SOIC (D16), Green (RoHS & no Sb/Br); Manufacturer: Texas Instruments; PartNumber: SN74LS247DE4; Rating: Catalog; SubFamily: Discrete Segment LED Driver; Vin(Max)(V): 5.25; Vin(Min)(V): 4.75; DatasheetVersion: SDLS083; PackageVersion: 4040047-6/M; PackageReference: D16; PackageDescription: 16-Pin Plastic Small Outline, Body 9.90 x 3.90 mm, Pitch 1.27 mm; Supplier 1: Digi-Key; Supplier Part Number 1: SN74LS247DE4-ND; Supplier 2: Mouser; Supplier Part Number 2: 595-SN74LS247DE4; Eco-Plan: Green (RoHS & no Sb/Br); Mounting Technology: Surface Mount; Code_JEDEC: MS-012; ComponentLink1Description: Manufacturer URL; ComponentLink1URL: http://www.ti.com/; ComponentLink2Description: Datasheet; ComponentLink2URL: http://www.ti.com/general/docs/lit/getliterature.tsp?genericPartNumber=SN74LS247&fileType=pdf; ComponentLink3Description: Package Specification; ComponentLink3URL: http://www.ti.com/litv/pdf/mpds178g
footprint TI-D16_N (SOIC, 16-Leads, Body 9.9x3.9mm, Pitch 1.27mm, IPC Medium Density)
footprint TI-D16_L (SOIC, 16-Leads, Body 9.9x3.9mm, Pitch 1.27mm, IPC High Density)
footprint TI-D16_M (SOIC, 16-Leads, Body 9.9x3.9mm, Pitch 1.27mm, IPC Low Density)
pins: 1 B (in), 2 C (in), 3 ~{LT} (in), 4 ~{BI}/~{RBO} (io), 5 ~{RBI} (in), 6 D (in), 7 A (in), 8 GND (power), 9 ~{e} (oc), 10 ~{d} (oc), 11 ~{c} (oc), 12 ~{b} (oc), 13 ~{a} (oc), 14 ~{g} (oc), 15 ~{f} (oc), 16 VCC (power)